# EAGLE library part INA (library bluepill)
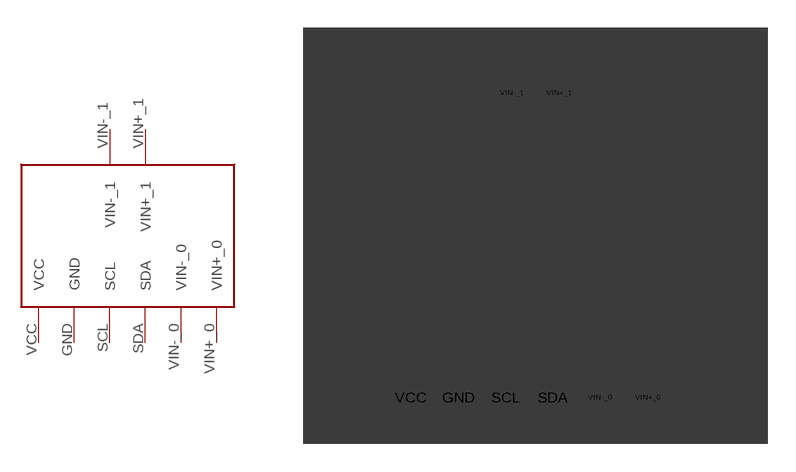
[diagram p1: symbol with the pads of INA; footprint INA]

Designator prefix -

## INA  [INA]
GND  GND
SCL  SCL
SDA  SDA
VCC  VCC
VIN+_0  VIN+_0
VIN+_1  VIN+_1
VIN-_0  VIN-_0
VIN-_1  VIN-_1

## Footprint INA (pad centres in mm)
drill 0.8 square: GND -4.15,-8.7; SCL -1.61,-8.7; SDA 0.93,-8.7; VCC -6.72,-8.7; VIN+_0 6.04,-8.7; VIN+_1 1.27,7.7; VIN-_0 3.47,-8.7; VIN-_1 -1.27,7.7
hole 3 at -10.5,9.2
hole 3 at 10.5,9.2
hole 3 at 10.5,-9.2
hole 3 at -10.5,-9.2